# Altium integrated library L-KLS1-TF-003-H1.85-R.IntLib: 1 symbol
Pins are listed as number, name and electrical type; pins without a type are passive.

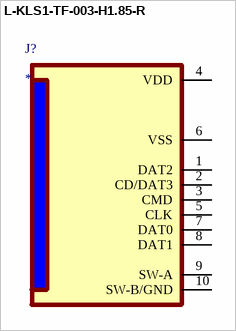
[diagram p0: symbol L-KLS1-TF-003-H1.85-R]

## L-KLS1-TF-003-H1.85-R
designator J?
footprint L-KLS1-TF-003-H1.85-R
pins: 1 DAT2, 2 CD/DAT3, 3 CMD, 4 VDD, 5 CLK, 6 VSS, 7 DAT0, 8 DAT1, 9 SW-A, 10 SW-B/GND